# EAGLE library part LTC3105-DFN10 (library X893)
LTC3105 - 400mA Step-Up DC/DC Converter with Maximum Power Point Control and 250mV Start-Up Product page <http://www.linear.com/product/LTC3105>
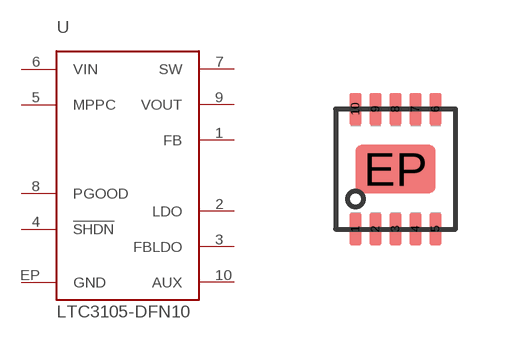
[diagram p181: symbol with the pads of DFN10-0.5; footprint DFN10-0.5]

Designator prefix U

## LTC3105-DFN10  [DFN10-0.5]
1  FB
2  LDO
3  FBLDO
4  !SHDN  in
5  MPPC
6  VIN
7  SW
8  PGOOD
9  VOUT
10  AUX
EP  GND  pwr

## Footprint DFN10-0.5 (pad centres in mm)
smd 0.3 x 0.8: 1 -1,-1.5; 2 -0.5,-1.5; 3 0,-1.5; 4 0.5,-1.5; 5 1,-1.5; 6 1,1.5; 7 0.5,1.5; 8 0,1.5; 9 -0.5,1.5; 10 -1,1.5
smd 2 x 1.2: EP 0,0